# Altium footprint library saw_filter_lib.PcbLib: 6 footprints
Each footprint in its own frame and in the unit in brackets; x right, y up, seen from the top. Pads: shape width x height; smd on the part's side, far side on the other; paste and mask are expansions set on the pad; w line width, h text height; cw(c..) or ccw(c..) is an arc to the next point about the centre after c.
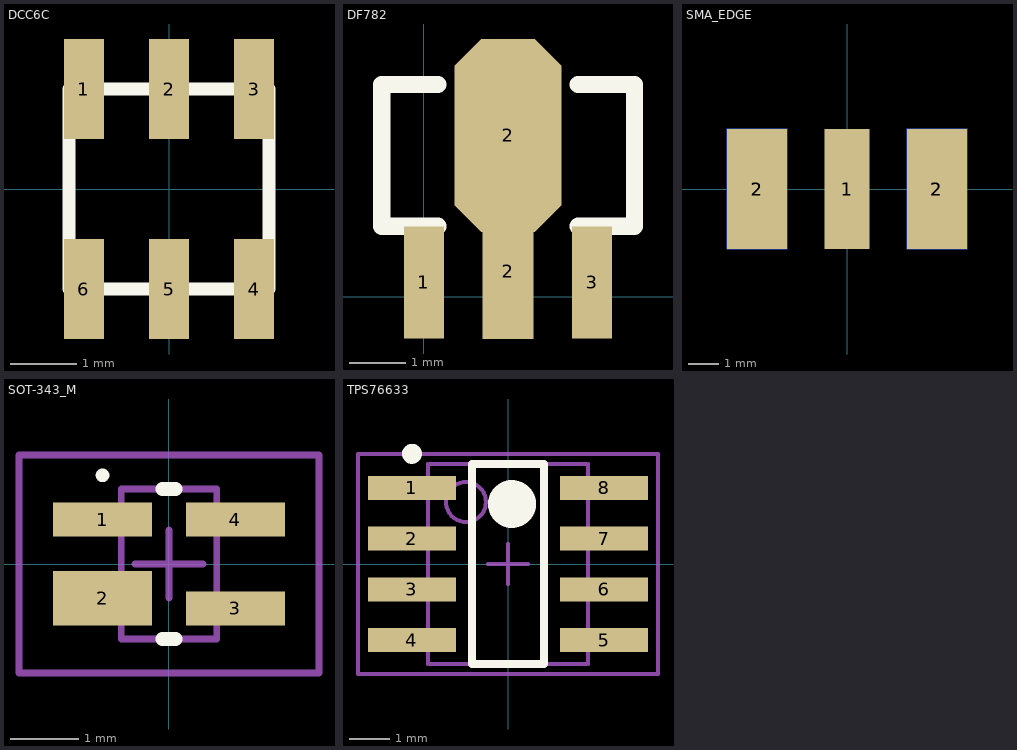
[diagram p0: the footprints below, top view; thin cyan lines are the x and y axes]

## DCC6C [mm]
height 1.1
pads (6):
  rect 0.6x1.5 smd: 1(-1.275,1.5) 2(0,1.5) 3(1.275,1.5) 4(1.275,-1.5) 5(0,-1.5) 6(-1.275,-1.5)
Top Overlay:
  lines w0.2: -1.5,-1.5 1.5,-1.5 1.5,1.5 -1.5,1.5 -1.5,-1.5
3D body: height 1.14, standoff -0.09, extent -1.5,-1.5 1.5,1.5

## DF782 [mm] "UofA Lib Pavel"
pads (4):
  rect 0.711x2 smd: 1(0,0.25) 3(2.997,0.25)
  rect 0.914x2.413 smd: 2(1.499,0.45)
  oct 1.905x3.435 smd: 2(1.5,2.867)
Top Overlay:
  lines w0.305: 0.25,1.25 -0.75,1.25 -0.75,3.775 0.25,3.775 ; 2.75,1.25 3.75,1.25 3.75,3.775 2.75,3.775
3D body: height 1.5, standoff 0, extent -0.725,0.25 3.775,4.25

## Hammond 1590H [mm]
3D body: height 15, standoff -12, extent -19,-26.25 19,26.25

## SMA_EDGE [mm]
pads (5):
  rect 1.5x4 smd: 1(0,0)
  rect 2x4 smd: 2(-3,0) 2(3,0)
  rect 2x4 smd far side: 2(-3,0) 2(3,0)
3D body: height 3.56, standoff -2.79, extent -3.175,-1.73 3.175,11.6

## SOT-343_M [mm] "SOT343, 4-Leads, Body 2x1.3 mm, Pitch 1.3mm, Lead Span 2.1mm, IPC Low Density"
height 1
pads (4):
  rect 1.45x0.5 smd: 1(-0.975,0.65) 3(0.975,-0.65) 4(0.975,0.65)
  rect 1.45x0.8 smd: 2(-0.975,-0.5)
Top Overlay:
  circle w0.1: c-0.975,1.3 r0.05
  lines w0.2: -0.1,-1.1 0.1,-1.1 ; -0.1,1.1 0.1,1.1
Mechanical 13:
  lines w0.1: -0.7,-1.1 -0.7,1.1 0.7,1.1 0.7,-1.1 -0.7,-1.1
Mechanical 15:
  lines w0.1: -0.5,0 0.5,0 ; 0,-0.5 0,0.5 ; -2.2,-1.6 -2.2,1.6 2.2,1.6 2.2,-1.6 -2.2,-1.6
3D body: height 1, standoff 0, extent -0.7,-1.1 0.7,1.1

## TPS76633 [mm] "SOIC, 8-Leads, Body 5.0x4.0mm (max), Pitch 1.27mm, IPC Medium Density"
height 1.75
pads (8):
  rect 2.2x0.6 smd: 1(-2.4,1.905) 2(-2.4,0.635) 3(-2.4,-0.635) 4(-2.4,-1.905) 5(2.4,-1.905) 6(2.4,-0.635) 7(2.4,0.635) 8(2.4,1.905)
Top Overlay:
  circle w0.6: c0.1,1.5 r0.3
  circle w0.25: c-2.4,2.755 r0.125
  lines w0.2: -0.9,-2.5 0.9,-2.5 0.9,2.5 -0.9,2.5 -0.9,-2.5
Mechanical 13:
  circle w0.1: c-1.05,1.55 r0.5
  lines w0.1: -2,-2.5 2,-2.5 2,2.5 -2,2.5 -2,-2.5
Mechanical 15:
  lines w0.1: -0.5,0 0.5,0 ; 0,-0.5 0,0.5 ; -3.75,-2.75 3.75,-2.75 3.75,2.75 -3.75,2.75 -3.75,-2.75
3D body: height 1.75, standoff 0.01, extent -2,-2.5 2,2.5